# Altium footprint library PCB1.PcbLib: 9 footprints
Each footprint in its own frame and in the unit in brackets; x right, y up, seen from the top. Pads: shape width x height; smd on the part's side, far side on the other; paste and mask are expansions set on the pad; w line width, h text height; cw(c..) or ccw(c..) is an arc to the next point about the centre after c.
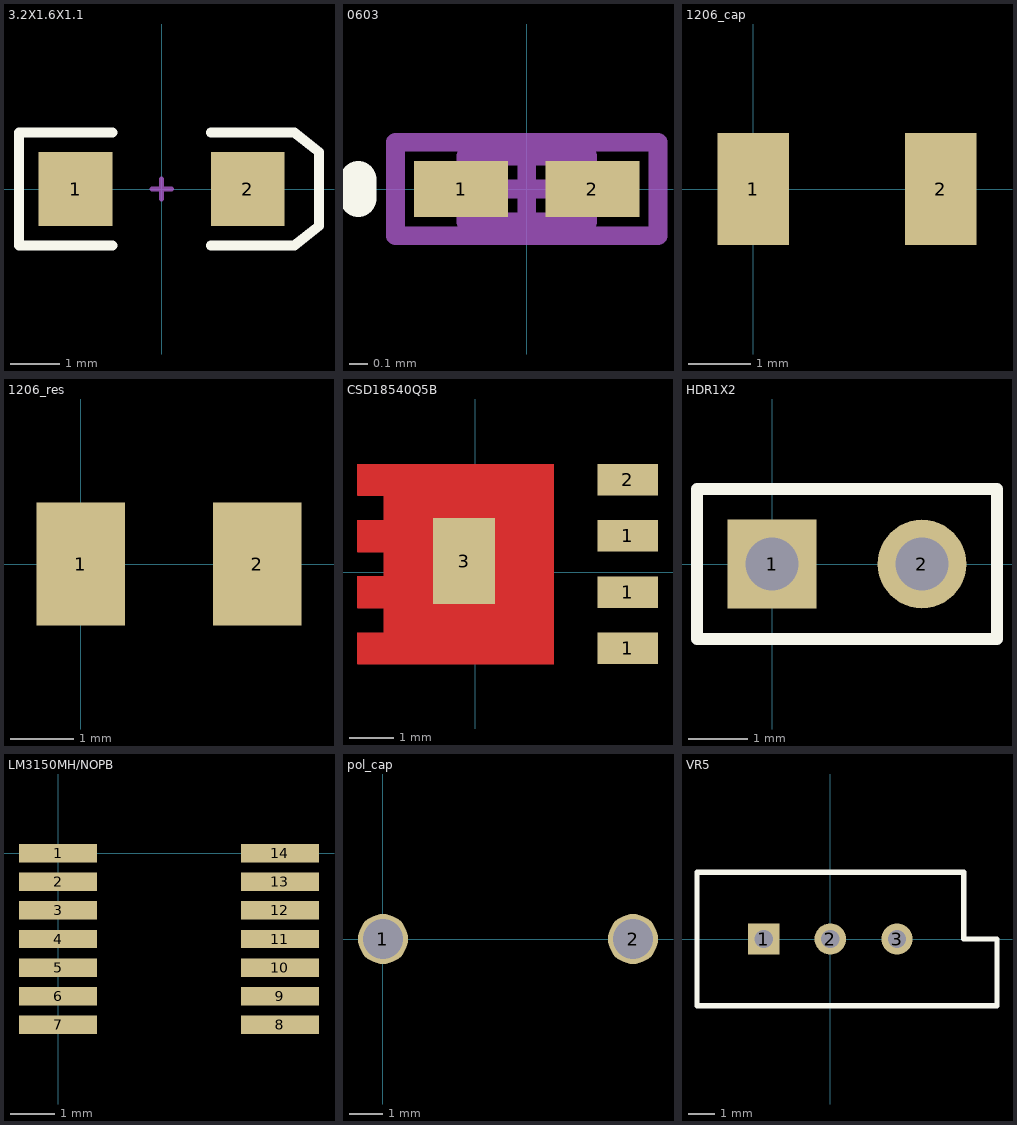
[diagram p0: the footprints below, top view; thin cyan lines are the x and y axes]

## 3.2X1.6X1.1 [mm]
pads (2):
  rect 1.5x1.5 smd: 1(-1.75,0) 2(1.75,0)
Top Overlay:
  lines w0.2: -1,-1.15 -2.9,-1.15 -2.9,1.15 -1,1.15 ; 1,-1.15 2.7,-1.15 3.2,-0.75 3.2,0.75 2.7,1.15 1,1.15
Mechanical 1:
  lines w0.1: -0.2,0 0.2,0 ; 0,-0.2 0,0.2

## 0603 [mm]
pads (2):
  rect 0.5x0.3 smd: 1(-0.35,0) 2(0.35,0)
Top Overlay:
  lines w0.2: -0.9,-0.05 -0.9,0.05
Mechanical 13:
  lines w0.1: -0.325,-0.175 0.325,-0.175 0.325,0.175 -0.325,0.175 -0.325,-0.175
Mechanical 15:
  lines w0.1: -0.175,0 0.175,0 ; 0,-0.175 0,0.175 ; -0.7,-0.25 0.7,-0.25 0.7,0.25 -0.7,0.25 -0.7,-0.25
3D body: height 0.55, standoff 0, extent -0.325,-0.175 0.325,0.175

## 1206_cap [mm]
pads (2):
  rect 1.15x1.8 smd: 1(0,0) 2(3,0)
3D body "C1206C100D2GACTU.STEP": height 0.88, standoff 0, extent -0.1,-0.8 3.1,0.8

## 1206_res [mm]
pads (2):
  rect 1.4x1.95 smd: 1(0,0) 2(2.8,0)
3D body "CRCW12060000ZSTB.STEP": height 0.6, standoff 0, extent -0.203,-0.8 2.997,0.8

## CSD18540Q5B [mm]
pads (5):
  rect 1.372x0.71 smd: 1(3.44,-1.716) 1(3.44,-0.446) 1(3.44,0.824) 2(3.44,2.094)
  rect 1.4x1.95 smd: 3(-0.254,0.254)
Top Layer:
  region: -2.655,-0.801 -2.065,-0.801 -2.065,-1.361 -2.655,-1.361 -2.655,-2.071 1.77,-2.071 1.77,2.449 -2.655,2.449 -2.655,1.739 -2.065,1.739 -2.065,1.179 -2.655,1.179 -2.655,0.469 -2.065,0.469 -2.065,-0.091 -2.655,-0.091
  lines w0.001: -2.655,-2.071 -2.655,-1.361 -2.065,-1.361 -2.065,-0.801 -2.655,-0.801 -2.655,-0.091 -2.065,-0.091 -2.065,0.469 -2.655,0.469 -2.655,1.179 -2.065,1.179 -2.065,1.739 -2.655,1.739 -2.655,2.449 1.77,2.449 1.77,-2.071 -2.655,-2.071
3D body "CSD18540Q5B.STEP": height 1.05, standoff 0, extent -2.3,-2.3 3.7,2.7

## HDR1X2 [mm]
pads (2):
  rect 1.5x1.5 hole 0.9: 1(0,0)
  round 1.5 hole 0.9: 2(2.54,0)
Top Overlay:
  lines w0.2: -1.27,-1.27 -1.27,1.27 3.81,1.27 3.81,-1.27 -1.27,-1.27

## LM3150MH/NOPB [mm]
pads (14):
  rect 1.78x0.42 smd: 1(0,0) 2(0,-0.65) 3(0,-1.3) 4(0,-1.95) 5(0,-2.6) 6(0,-3.25) 7(0,-3.9) 8(5.05,-3.9) 9(5.05,-3.25) 10(5.05,-2.6) 11(5.05,-1.95) 12(5.05,-1.3) 13(5.05,-0.65) 14(5.05,0)
3D body "NOPB.STEP": height 1.2, standoff 0, extent -0.67,-4.45 5.73,0.55

## pol_cap [mm]
pads (2):
  round 1.5 hole 1.2: 1(0,0) 2(7.5,0)
Top Layer:
  text "+" at -1.651,0.508 h1.52
3D body "ECA2WHG220.STEP": height 25, standoff -17, extent -4.25,-7.997 11.75,7.997

## VR5 [mm]
pads (3):
  rect 1.2x1.2 hole 0.7: 1(-2.54,0)
  round 1.2 hole 0.7: 2(0,0) 3(2.54,0)
Top Overlay:
  lines w0.2: -5.08,-2.54 6.35,-2.54 6.35,0 5.08,0 5.08,2.54 -5.08,2.54 -5.08,-2.54